# Altium schematic symbol library Senior Design SCHLIB.SchLib: 4 symbols
Pins are listed as number, name and electrical type; pins without a type are passive.

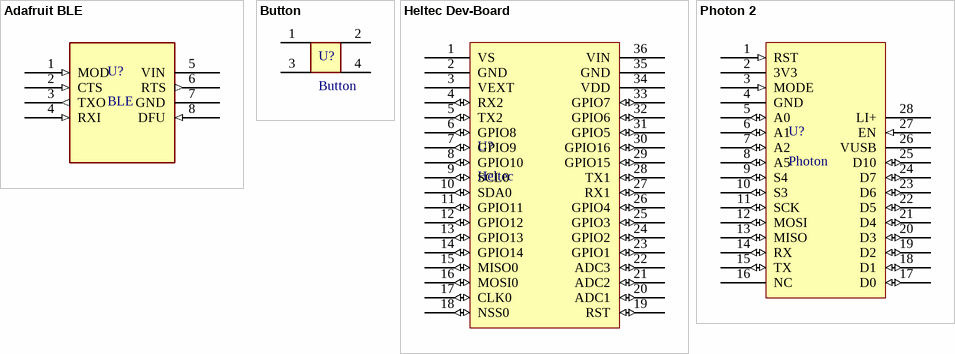
[diagram p0: symbols Adafruit BLE to Photon 2]

## Adafruit BLE
designator U?, comment BLE
footprint Adafruit BLE
pins: 1 MOD (in), 2 CTS (in), 3 TXO (out), 4 RXI (in), 5 VIN (power), 6 RTS (out), 7 GND (power), 8 DFU (in)

## Button
designator U?
footprint BUTTON
pins: 1, 2, 3, 4

## Heltec Dev-Board
designator U?, comment Heltec
footprint HELTEC
pins: 1 VS (power), 2 GND (power), 3 VEXT (power), 4 RX2 (io), 5 TX2 (io), 6 GPIO8 (io), 7 GPIO9 (io), 8 GPIO10 (io), 9 SCL0 (io), 10 SDA0 (io), 11 GPIO11 (io), 12 GPIO12 (io), 13 GPIO13 (io), 14 GPIO14 (io), 15 MISO0 (io), 16 MOSI0 (io), 17 CLK0 (io), 18 NSS0 (io), 19 RST (io), 20 ADC1 (io), 21 ADC2 (io), 22 ADC3 (io), 23 GPIO1 (io), 24 GPIO2 (io), 25 GPIO3 (io), 26 GPIO4 (io), 27 RX1 (io), 28 TX1 (io), 29 GPIO15 (io), 30 GPIO16 (io), 31 GPIO5 (io), 32 GPIO6 (io), 33 GPIO7 (io), 34 VDD (power), 35 GND (power), 36 VIN (power)

## Photon 2
designator U?, comment Photon
Particle Photon 2 IoT Development Board; ComponentLink1Description: Datasheet; ComponentLink1URL: https://docs.particle.io/reference/datasheets/wi-fi/photon-2-datasheet/
footprint PCBComponent_1
pins: 1 RST (in), 2 3V3 (power), 3 MODE (in), 4 GND (power), 5 A0 (io), 6 A1 (io), 7 A2 (io), 8 A5 (io), 9 S4 (io), 10 S3 (io), 11 SCK (io), 12 MOSI (io), 13 MISO (io), 14 RX (io), 15 TX (io), 16 NC (power), 17 D0 (io), 18 D1 (io), 19 D2 (io), 20 D3 (io), 21 D4 (io), 22 D5 (io), 23 D6 (io), 24 D7 (io), 25 D10 (io), 26 VUSB (power), 27 EN (in), 28 LI+ (power)